# EAGLE library part 6490XX21022_64902021022 (library WR-MPC4)
WR-MPC4 4.20 mm Male Dual Row Angled Header w. Mounting Flanges for Screw-in Retention KIND PROPERTIES: Pitch:4.2 mm Gender:Male MATERIAL PROPERTIES: Insulator Material :PA66 Insulator Flammability Rating:UL94 V-0 Insulator Color:White Contact Material:Copper Alloy Contact Plating:Tin Contact Type:Stamped GENERAL INFORMATION Operating Temperature:-40 up to +105 °C Working Voltage:600V (AC) Withstanding Voltage:1500 V (AC) Contact Resistance:10 mΩ RISO:1000 MΩ PACKAGING PROPERTIES Packaging:Tray <https://katalog.we-online.com/media/images/v2/o33189v209%20Family_WR-MPC4_6490xx21022.jpg> Details see: https://katalog.we-online.com/en/em/MPC4_4_20_MALE_DUAL_ROW_ANGLED_HEADER_W_MOUNTING_FLANGES_6490XX21022 Updated by Yingchun,Shan 2019-11-12 2019 (C) Würth Elektronik
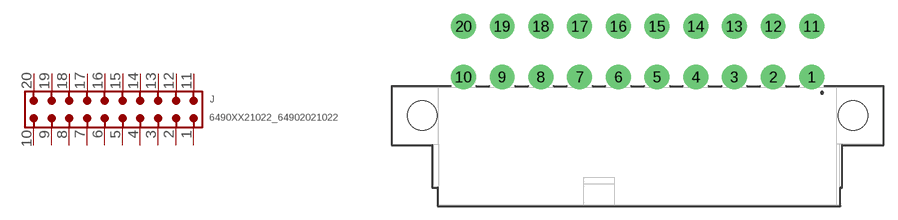
[diagram p49: symbol with the pads of 64902021022; footprint 64902021022]

Designator prefix J

## 6490XX21022_64902021022 (CONTACT-RESISTANCE: 10mOhm; DATASHEET-URL: https://www.we-online.com/catalog/datasheet/64902021022.pdf; GENDER: Male; L: 53.2mm; MATE-WITH: WR-MPC4 4.20 mm Female Dual Row Plug; MOUNT: THT; PACKAGING: Tray; PART-NUMBER: 64902021022; PCB-CABLE-PANEL: PCB; PINS: 20; PITCH: 4.2mm; ROWS: Dual; TOL-R: max.; TYPE: Right Angled; WORKING-VOLTAGE: 600V(AC))  [64902021022]
1  1  pas
2  2  pas
3  3  pas
4  4  pas
5  5  pas
6  6  pas
7  7  pas
8  8  pas
9  9  pas
10  10  pas
11  11  pas
12  12  pas
13  13  pas
14  14  pas
15  15  pas
16  16  pas
17  17  pas
18  18  pas
19  19  pas
20  20  pas

## Footprint 64902021022 (pad centres in mm)
WR-MPC4 4.20 mm Male Dual Row Angled Header w. Mounting Flanges for Screw-in Retention,20 pins
drill 1.8: 1 18.9,7.5; 2 14.7,7.5; 3 10.5,7.5; 4 6.3,7.5; 5 2.1,7.5; 6 -2.1,7.5; 7 -6.3,7.5; 8 -10.5,7.5; 9 -14.7,7.5; 10 -18.9,7.5; 11 18.9,13; 12 14.7,13; 13 10.5,13; 14 6.3,13; 15 2.1,13; 16 -2.1,13; 17 -6.3,13; 18 -10.5,13; 19 -14.7,13; 20 -18.9,13
hole 3.2 at -23.4,3.3
hole 3.2 at 23.4,3.3